# Altium schematic symbol library pinhead.SCHLIB: 98 symbols
Pins are listed as number, name and electrical type; pins without a type are passive.

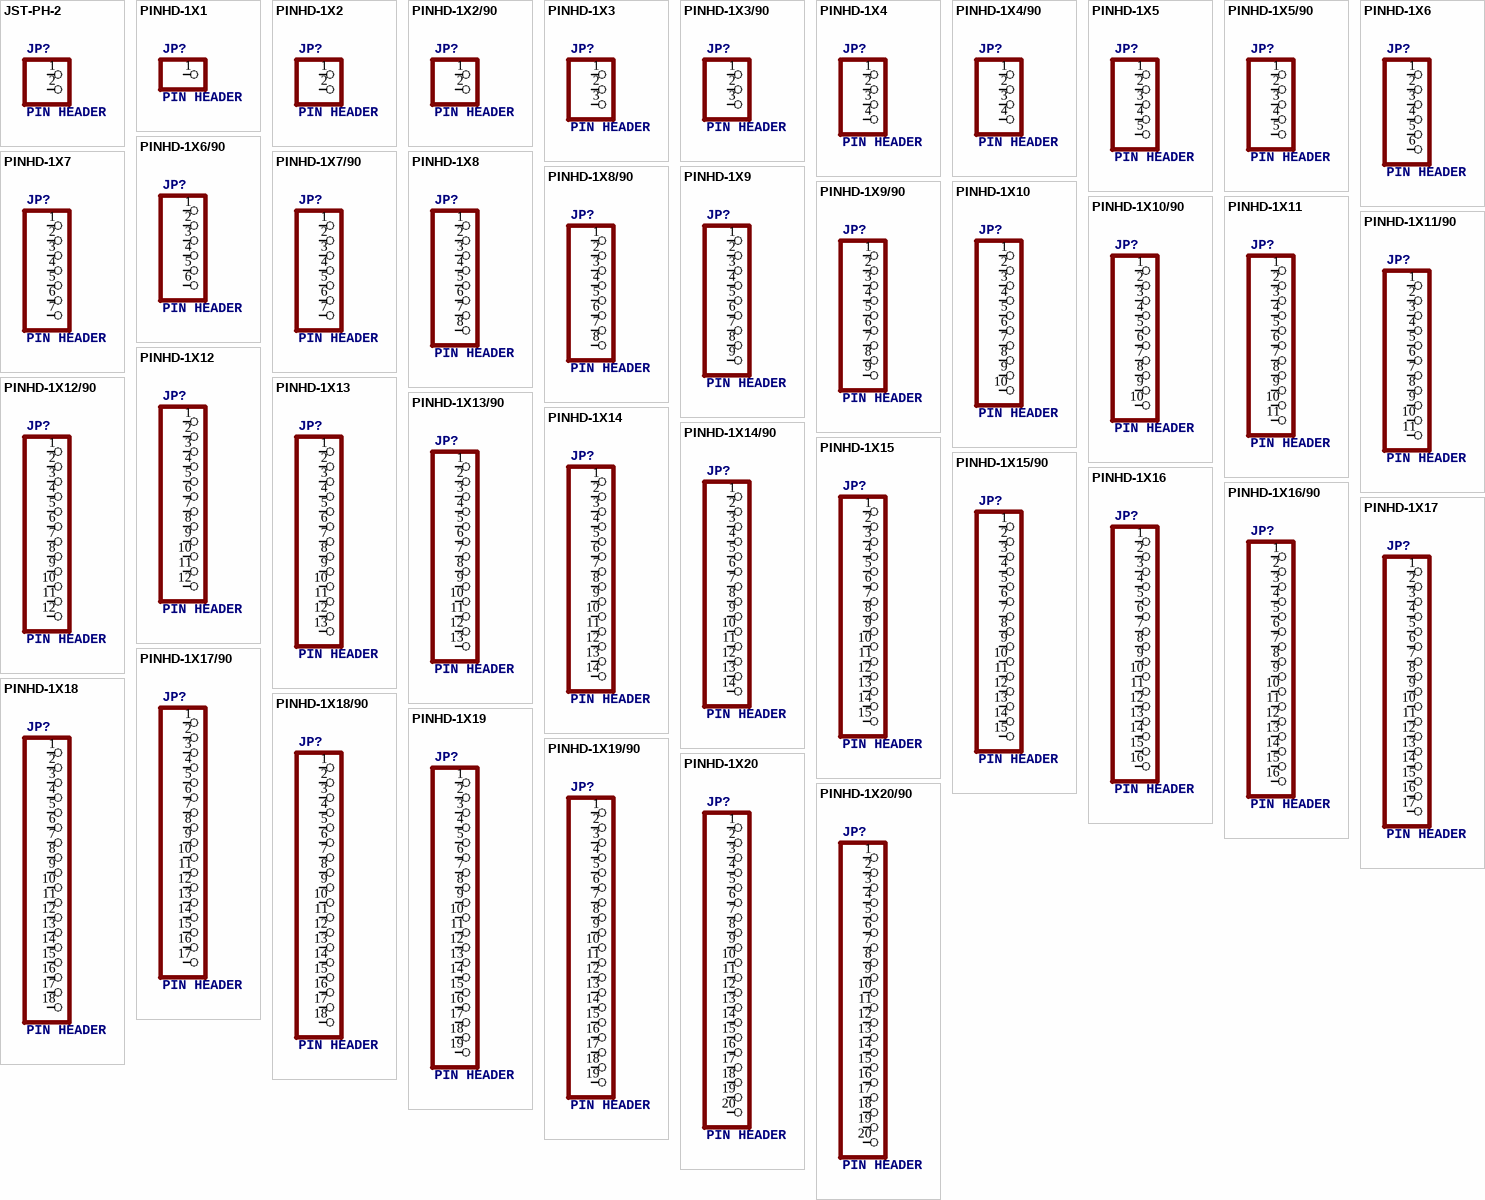
[diagram p0: symbols JST-PH-2 to PINHD-1X20/90]

## JST-PH-2
designator JP?, comment PIN HEADER
2 Positions Header Connector 0.079" (2.00mm) Through Hole, Right Angle Tin
footprint JST-PH-2
footprint JST-PH-2-SMD
pins: 1, 2

## PINHD-1X1
designator JP?, comment PIN HEADER
footprint 1X01
pins: 1

## PINHD-1X2
designator JP?, comment PIN HEADER
footprint 1X02
pins: 1, 2

## PINHD-1X2/90
designator JP?, comment PIN HEADER
footprint 1X02/90
pins: 1, 2

## PINHD-1X3
designator JP?, comment PIN HEADER
footprint 1X03
pins: 1, 2, 3

## PINHD-1X3/90
designator JP?, comment PIN HEADER
footprint 1X03/90
pins: 1, 2, 3

## PINHD-1X4
designator JP?, comment PIN HEADER
footprint 1X04
pins: 1, 2, 3, 4

## PINHD-1X4/90
designator JP?, comment PIN HEADER
footprint 1X04/90
pins: 1, 2, 3, 4

## PINHD-1X5
designator JP?, comment PIN HEADER
footprint 1X05
pins: 1, 2, 3, 4, 5

## PINHD-1X5/90
designator JP?, comment PIN HEADER
footprint 1X05/90
pins: 1, 2, 3, 4, 5

## PINHD-1X6
designator JP?, comment PIN HEADER
footprint 1X06
pins: 1, 2, 3, 4, 5, 6

## PINHD-1X6/90
designator JP?, comment PIN HEADER
footprint 1X06/90
pins: 1, 2, 3, 4, 5, 6

## PINHD-1X7
designator JP?, comment PIN HEADER
footprint 1X07
pins: 1, 2, 3, 4, 5, 6, 7

## PINHD-1X7/90
designator JP?, comment PIN HEADER
footprint 1X07/90
pins: 1, 2, 3, 4, 5, 6, 7

## PINHD-1X8
designator JP?, comment PIN HEADER
footprint 1X08
pins: 1, 2, 3, 4, 5, 6, 7, 8

## PINHD-1X8/90
designator JP?, comment PIN HEADER
footprint 1X08/90
pins: 1, 2, 3, 4, 5, 6, 7, 8

## PINHD-1X9
designator JP?, comment PIN HEADER
footprint 1X09
pins: 1, 2, 3, 4, 5, 6, 7, 8, 9

## PINHD-1X9/90
designator JP?, comment PIN HEADER
footprint 1X09/90
pins: 1, 2, 3, 4, 5, 6, 7, 8, 9

## PINHD-1X10
designator JP?, comment PIN HEADER
footprint 1X10
pins: 1, 2, 3, 4, 5, 6, 7, 8, 9, 10

## PINHD-1X10/90
designator JP?, comment PIN HEADER
footprint 1X10/90
pins: 1, 2, 3, 4, 5, 6, 7, 8, 9, 10

## PINHD-1X11
designator JP?, comment PIN HEADER
footprint 1X11
pins: 1, 2, 3, 4, 5, 6, 7, 8, 9, 10, 11

## PINHD-1X11/90
designator JP?, comment PIN HEADER
footprint 1X11/90
pins: 1, 2, 3, 4, 5, 6, 7, 8, 9, 10, 11

## PINHD-1X12
designator JP?, comment PIN HEADER
footprint 1X12
pins: 1, 2, 3, 4, 5, 6, 7, 8, 9, 10, 11, 12

## PINHD-1X12/90
designator JP?, comment PIN HEADER
footprint 1X12/90
pins: 1, 2, 3, 4, 5, 6, 7, 8, 9, 10, 11, 12

## PINHD-1X13
designator JP?, comment PIN HEADER
footprint 1X13
pins: 1, 2, 3, 4, 5, 6, 7, 8, 9, 10, 11, 12, 13

## PINHD-1X13/90
designator JP?, comment PIN HEADER
footprint 1X13/90
pins: 1, 2, 3, 4, 5, 6, 7, 8, 9, 10, 11, 12, 13

## PINHD-1X14
designator JP?, comment PIN HEADER
footprint 1X14
pins: 1, 2, 3, 4, 5, 6, 7, 8, 9, 10, 11, 12, 13, 14

## PINHD-1X14/90
designator JP?, comment PIN HEADER
footprint 1X14/90
pins: 1, 2, 3, 4, 5, 6, 7, 8, 9, 10, 11, 12, 13, 14

## PINHD-1X15
designator JP?, comment PIN HEADER
footprint 1X15
pins: 1, 2, 3, 4, 5, 6, 7, 8, 9, 10, 11, 12, 13, 14, 15

## PINHD-1X15/90
designator JP?, comment PIN HEADER
footprint 1X15/90
pins: 1, 2, 3, 4, 5, 6, 7, 8, 9, 10, 11, 12, 13, 14, 15

## PINHD-1X16
designator JP?, comment PIN HEADER
footprint 1X16
pins: 1, 2, 3, 4, 5, 6, 7, 8, 9, 10, 11, 12, 13, 14, 15, 16

## PINHD-1X16/90
designator JP?, comment PIN HEADER
footprint 1X16/90
pins: 1, 2, 3, 4, 5, 6, 7, 8, 9, 10, 11, 12, 13, 14, 15, 16

## PINHD-1X17
designator JP?, comment PIN HEADER
footprint 1X17
pins: 1, 2, 3, 4, 5, 6, 7, 8, 9, 10, 11, 12, 13, 14, 15, 16, 17

## PINHD-1X17/90
designator JP?, comment PIN HEADER
footprint 1X17/90
pins: 1, 2, 3, 4, 5, 6, 7, 8, 9, 10, 11, 12, 13, 14, 15, 16, 17

## PINHD-1X18
designator JP?, comment PIN HEADER
footprint 1X18
pins: 1, 2, 3, 4, 5, 6, 7, 8, 9, 10, 11, 12, 13, 14, 15, 16, 17, 18

## PINHD-1X18/90
designator JP?, comment PIN HEADER
footprint 1X18/90
pins: 1, 2, 3, 4, 5, 6, 7, 8, 9, 10, 11, 12, 13, 14, 15, 16, 17, 18

## PINHD-1X19
designator JP?, comment PIN HEADER
footprint 1X19
pins: 1, 2, 3, 4, 5, 6, 7, 8, 9, 10, 11, 12, 13, 14, 15, 16, 17, 18, 19

## PINHD-1X19/90
designator JP?, comment PIN HEADER
footprint 1X19/90
pins: 1, 2, 3, 4, 5, 6, 7, 8, 9, 10, 11, 12, 13, 14, 15, 16, 17, 18, 19

## PINHD-1X20
designator JP?, comment PIN HEADER
footprint 1X20
pins: 1, 2, 3, 4, 5, 6, 7, 8, 9, 10, 11, 12, 13, 14, 15, 16, 17, 18, 19, 20

## PINHD-1X20/90
designator JP?, comment PIN HEADER
footprint 1X20/90
pins: 1, 2, 3, 4, 5, 6, 7, 8, 9, 10, 11, 12, 13, 14, 15, 16, 17, 18, 19, 20

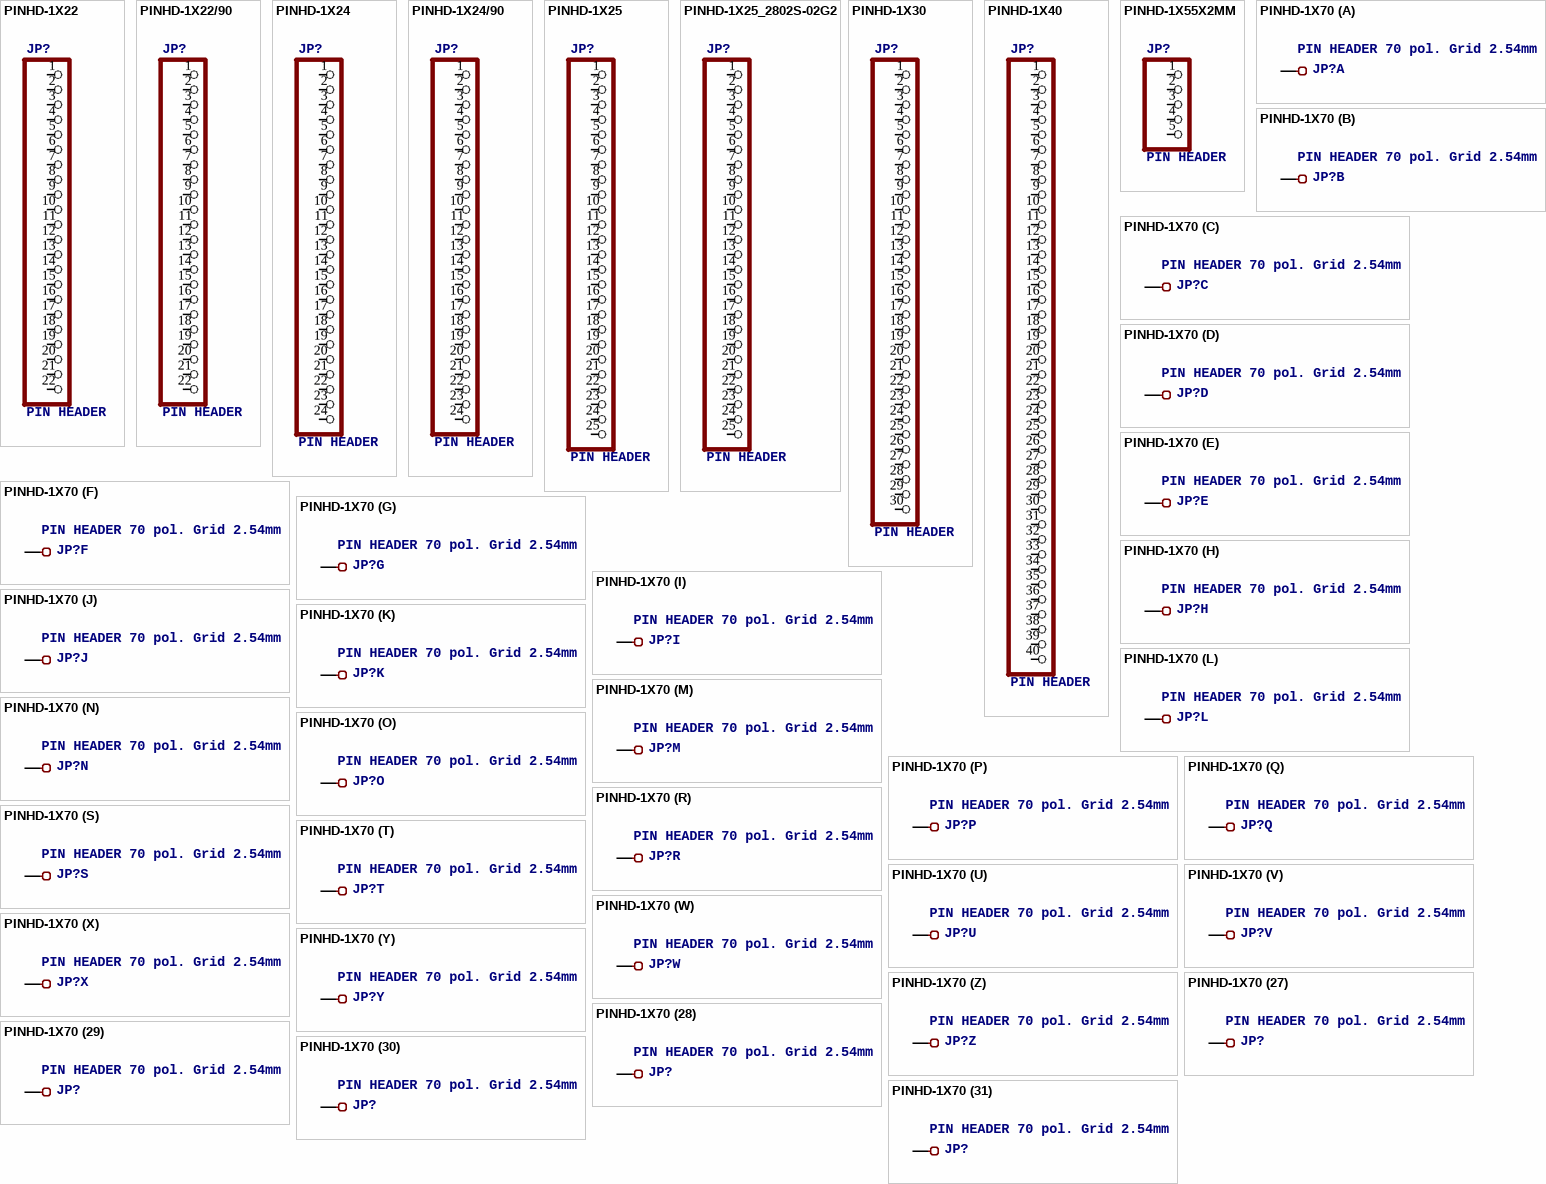
[diagram p1: symbols PINHD-1X22 to PINHD-1X70]

## PINHD-1X22
designator JP?, comment PIN HEADER
footprint 1X22
pins: 1, 2, 3, 4, 5, 6, 7, 8, 9, 10, 11, 12, 13, 14, 15, 16, 17, 18, 19, 20, 21, 22

## PINHD-1X22/90
designator JP?, comment PIN HEADER
footprint 1X22/90
pins: 1, 2, 3, 4, 5, 6, 7, 8, 9, 10, 11, 12, 13, 14, 15, 16, 17, 18, 19, 20, 21, 22

## PINHD-1X24
designator JP?, comment PIN HEADER
footprint 1X24
pins: 1, 2, 3, 4, 5, 6, 7, 8, 9, 10, 11, 12, 13, 14, 15, 16, 17, 18, 19, 20, 21, 22, 23, 24

## PINHD-1X24/90
designator JP?, comment PIN HEADER
footprint 1X24/90
pins: 1, 2, 3, 4, 5, 6, 7, 8, 9, 10, 11, 12, 13, 14, 15, 16, 17, 18, 19, 20, 21, 22, 23, 24

## PINHD-1X25
designator JP?, comment PIN HEADER
footprint 1X25
pins: 1, 2, 3, 4, 5, 6, 7, 8, 9, 10, 11, 12, 13, 14, 15, 16, 17, 18, 19, 20, 21, 22, 23, 24, 25

## PINHD-1X25_2802S-02G2
designator JP?, comment PIN HEADER
footprint 2802S-02G2
pins: 1, 2, 3, 4, 5, 6, 7, 8, 9, 10, 11, 12, 13, 14, 15, 16, 17, 18, 19, 20, 21, 22, 23, 24, 25

## PINHD-1X30
designator JP?, comment PIN HEADER
footprint 1X30
pins: 1, 2, 3, 4, 5, 6, 7, 8, 9, 10, 11, 12, 13, 14, 15, 16, 17, 18, 19, 20, 21, 22, 23, 24, 25, 26, 27, 28, 29, 30

## PINHD-1X40
designator JP?, comment PIN HEADER
footprint 1X40
pins: 1, 2, 3, 4, 5, 6, 7, 8, 9, 10, 11, 12, 13, 14, 15, 16, 17, 18, 19, 20, 21, 22, 23, 24, 25, 26, 27, 28, 29, 30, 31, 32, 33, 34, 35, 36, 37, 38, 39, 40

## PINHD-1X55X2MM
designator JP?, comment PIN HEADER
footprint 1_05X2MM
pins: 1, 2, 3, 4, 5

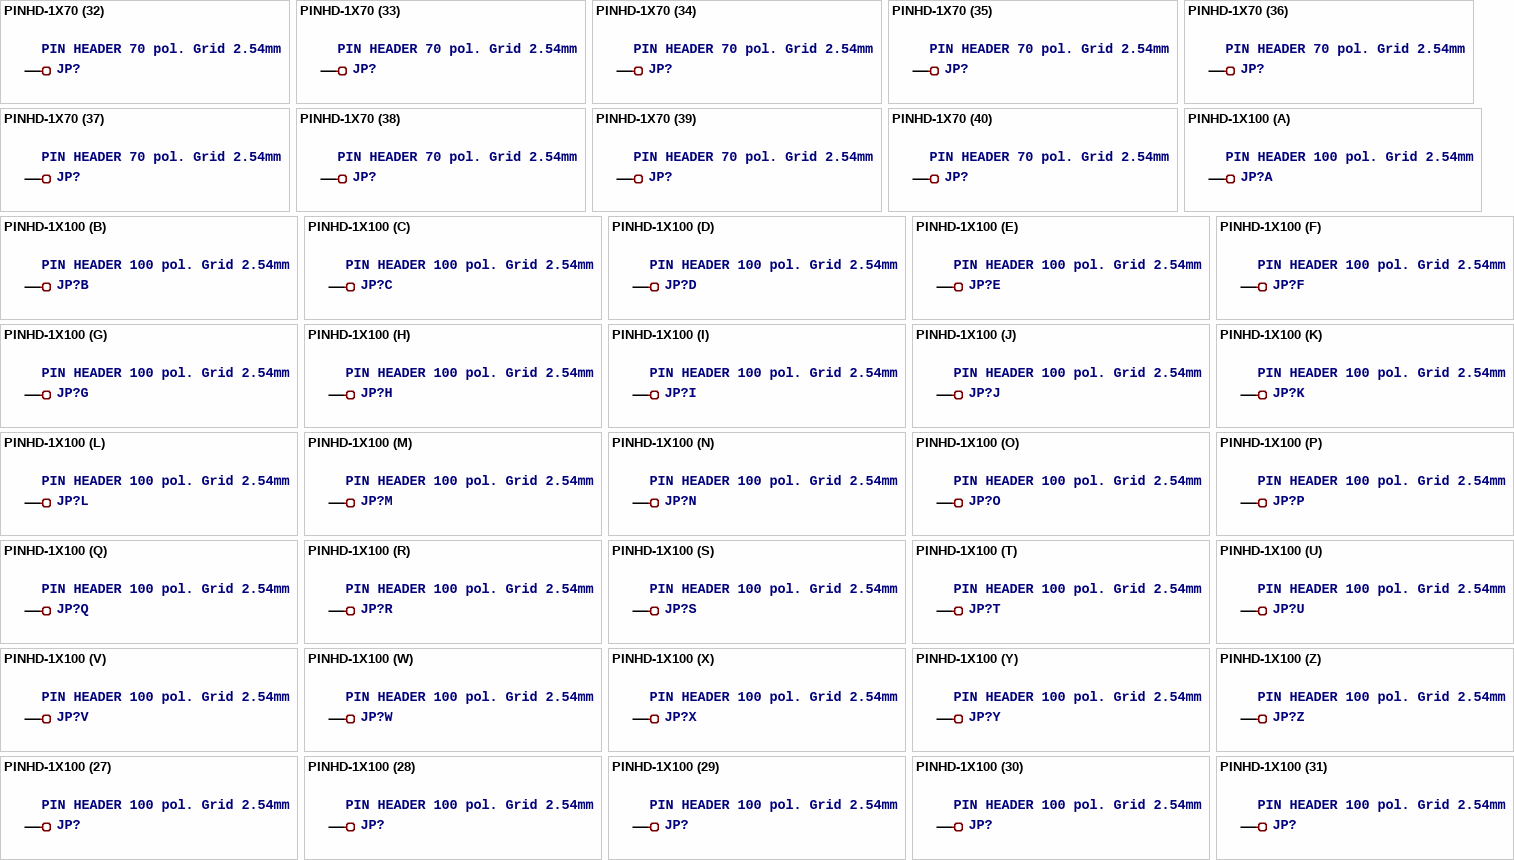
[diagram p2: symbols PINHD-1X70 to PINHD-1X100]

## PINHD-1X70
designator JP?, comment PIN HEADER 70 pol. Grid 2.54mm
footprint 1X70
part A pins: 1
part B pins: 2 1
part C pins: 3 1
part D pins: 4 1
part E pins: 5 1
part F pins: 6 1
part G pins: 7 1
part H pins: 8 1
part I pins: 9 1
part J pins: 10 1
part K pins: 11 1
part L pins: 12 1
part M pins: 13 1
part N pins: 14 1
part O pins: 15 1
part P pins: 16 1
part Q pins: 17 1
part R pins: 18 1
part S pins: 19 1
part T pins: 20 1
part U pins: 21 1
part V pins: 22 1
part W pins: 23 1
part X pins: 24 1
part Y pins: 25 1
part Z pins: 26 1
part 27 pins: 27 1
part 28 pins: 28 1
part 29 pins: 29 1
part 30 pins: 30 1
part 31 pins: 31 1
part 32 pins: 32 1
part 33 pins: 33 1
part 34 pins: 34 1
part 35 pins: 35 1
part 36 pins: 36 1
part 37 pins: 37 1
part 38 pins: 38 1
part 39 pins: 39 1
part 40 pins: 40 1
part 41 pins: 41 1
part 42 pins: 42 1
part 43 pins: 43 1
part 44 pins: 44 1
part 45 pins: 45 1
part 46 pins: 46 1
part 47 pins: 47 1
part 48 pins: 48 1
part 49 pins: 49 1
part 50 pins: 50 1
part 51 pins: 51 1
part 52 pins: 52 1
part 53 pins: 53 1
part 54 pins: 54 1
part 55 pins: 55 1
part 56 pins: 56 1
part 57 pins: 57 1
part 58 pins: 58 1
part 59 pins: 59 1
part 60 pins: 60 1
part 61 pins: 61 1
part 62 pins: 62 1
part 63 pins: 63 1
part 64 pins: 64 1
part 65 pins: 65 1
part 66 pins: 66 1
part 67 pins: 67 1
part 68 pins: 68 1
part 69 pins: 69 1
part 70 pins: 70 1

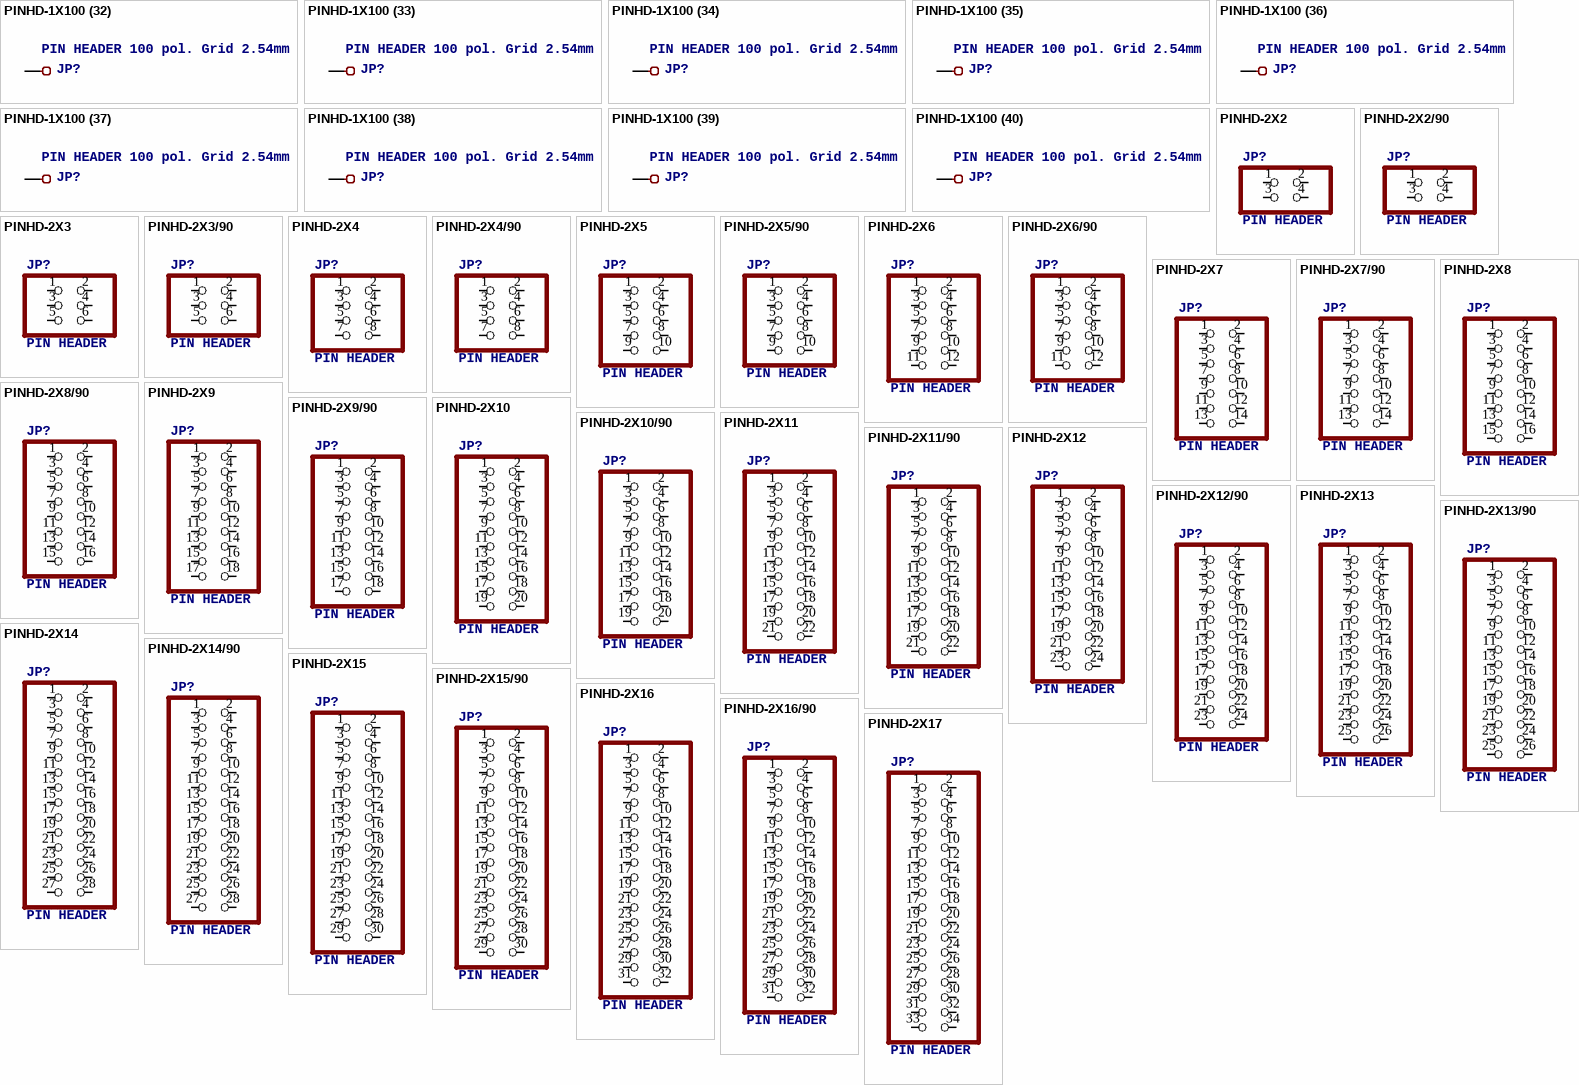
[diagram p3: symbols PINHD-1X100 to PINHD-2X17]

## PINHD-1X100
designator JP?, comment PIN HEADER 100 pol. Grid 2.54mm
footprint 1X100
part A pins: 1
part B pins: 2 1
part C pins: 3 1
part D pins: 4 1
part E pins: 5 1
part F pins: 6 1
part G pins: 7 1
part H pins: 8 1
part I pins: 9 1
part J pins: 10 1
part K pins: 11 1
part L pins: 12 1
part M pins: 13 1
part N pins: 14 1
part O pins: 15 1
part P pins: 16 1
part Q pins: 17 1
part R pins: 18 1
part S pins: 19 1
part T pins: 20 1
part U pins: 21 1
part V pins: 22 1
part W pins: 23 1
part X pins: 24 1
part Y pins: 25 1
part Z pins: 26 1
part 27 pins: 27 1
part 28 pins: 28 1
part 29 pins: 29 1
part 30 pins: 30 1
part 31 pins: 31 1
part 32 pins: 32 1
part 33 pins: 33 1
part 34 pins: 34 1
part 35 pins: 35 1
part 36 pins: 36 1
part 37 pins: 37 1
part 38 pins: 38 1
part 39 pins: 39 1
part 40 pins: 40 1
part 41 pins: 41 1
part 42 pins: 42 1
part 43 pins: 43 1
part 44 pins: 44 1
part 45 pins: 45 1
part 46 pins: 46 1
part 47 pins: 47 1
part 48 pins: 48 1
part 49 pins: 49 1
part 50 pins: 50 1
part 51 pins: 51 1
part 52 pins: 52 1
part 53 pins: 53 1
part 54 pins: 54 1
part 55 pins: 55 1
part 56 pins: 56 1
part 57 pins: 57 1
part 58 pins: 58 1
part 59 pins: 59 1
part 60 pins: 60 1
part 61 pins: 61 1
part 62 pins: 62 1
part 63 pins: 63 1
part 64 pins: 64 1
part 65 pins: 65 1
part 66 pins: 66 1
part 67 pins: 67 1
part 68 pins: 68 1
part 69 pins: 69 1
part 70 pins: 70 1
part 71 pins: 71 1
part 72 pins: 72 1
part 73 pins: 73 1
part 74 pins: 74 1
part 75 pins: 75 1
part 76 pins: 76 1
part 77 pins: 77 1
part 78 pins: 78 1
part 79 pins: 79 1
part 80 pins: 80 1
part 81 pins: 81 1
part 82 pins: 82 1
part 83 pins: 83 1
part 84 pins: 84 1
part 85 pins: 85 1
part 86 pins: 86 1
part 87 pins: 87 1
part 88 pins: 88 1
part 89 pins: 89 1
part 90 pins: 90 1
part 91 pins: 91 1
part 92 pins: 92 1
part 93 pins: 93 1
part 94 pins: 94 1
part 95 pins: 95 1
part 96 pins: 96 1
part 97 pins: 97 1
part 98 pins: 98 1
part 99 pins: 99 1
part 100 pins: 100 1

## PINHD-2X2
designator JP?, comment PIN HEADER
footprint 2X02
pins: 1, 2, 3, 4

## PINHD-2X2/90
designator JP?, comment PIN HEADER
footprint 2X02/90
pins: 1, 2, 3, 4

## PINHD-2X3
designator JP?, comment PIN HEADER
footprint 2X03
pins: 1, 2, 3, 4, 5, 6

## PINHD-2X3/90
designator JP?, comment PIN HEADER
footprint 2X03/90
pins: 1, 2, 3, 4, 5, 6

## PINHD-2X4
designator JP?, comment PIN HEADER
footprint 2X04
pins: 1, 2, 3, 4, 5, 6, 7, 8

## PINHD-2X4/90
designator JP?, comment PIN HEADER
footprint 2X04/90
pins: 1, 2, 3, 4, 5, 6, 7, 8

## PINHD-2X5
designator JP?, comment PIN HEADER
footprint 2X05
pins: 1, 2, 3, 4, 5, 6, 7, 8, 9, 10

## PINHD-2X5/90
designator JP?, comment PIN HEADER
footprint 2X05/90
pins: 1, 2, 3, 4, 5, 6, 7, 8, 9, 10

## PINHD-2X6
designator JP?, comment PIN HEADER
footprint 2X06
pins: 1, 2, 3, 4, 5, 6, 7, 8, 9, 10, 11, 12

## PINHD-2X6/90
designator JP?, comment PIN HEADER
footprint 2X06/90
pins: 1, 2, 3, 4, 5, 6, 7, 8, 9, 10, 11, 12

## PINHD-2X7
designator JP?, comment PIN HEADER
footprint 2X07
pins: 1, 2, 3, 4, 5, 6, 7, 8, 9, 10, 11, 12, 13, 14

## PINHD-2X7/90
designator JP?, comment PIN HEADER
footprint 2X07/90
pins: 1, 2, 3, 4, 5, 6, 7, 8, 9, 10, 11, 12, 13, 14

## PINHD-2X8
designator JP?, comment PIN HEADER
footprint 2X08
pins: 1, 2, 3, 4, 5, 6, 7, 8, 9, 10, 11, 12, 13, 14, 15, 16

## PINHD-2X8/90
designator JP?, comment PIN HEADER
footprint 2X08/90
pins: 1, 2, 3, 4, 5, 6, 7, 8, 9, 10, 11, 12, 13, 14, 15, 16

## PINHD-2X9
designator JP?, comment PIN HEADER
footprint 2X09
pins: 1, 2, 3, 4, 5, 6, 7, 8, 9, 10, 11, 12, 13, 14, 15, 16, 17, 18

## PINHD-2X9/90
designator JP?, comment PIN HEADER
footprint 2X09/90
pins: 1, 2, 3, 4, 5, 6, 7, 8, 9, 10, 11, 12, 13, 14, 15, 16, 17, 18

## PINHD-2X10
designator JP?, comment PIN HEADER
footprint 2X10
pins: 1, 2, 3, 4, 5, 6, 7, 8, 9, 10, 11, 12, 13, 14, 15, 16, 17, 18, 19, 20

## PINHD-2X10/90
designator JP?, comment PIN HEADER
footprint 2X10/90
pins: 1, 2, 3, 4, 5, 6, 7, 8, 9, 10, 11, 12, 13, 14, 15, 16, 17, 18, 19, 20

## PINHD-2X11
designator JP?, comment PIN HEADER
footprint 2X11
pins: 1, 2, 3, 4, 5, 6, 7, 8, 9, 10, 11, 12, 13, 14, 15, 16, 17, 18, 19, 20, 21, 22

## PINHD-2X11/90
designator JP?, comment PIN HEADER
footprint 2X11/90
pins: 1, 2, 3, 4, 5, 6, 7, 8, 9, 10, 11, 12, 13, 14, 15, 16, 17, 18, 19, 20, 21, 22

## PINHD-2X12
designator JP?, comment PIN HEADER
footprint 2X12
pins: 1, 2, 3, 4, 5, 6, 7, 8, 9, 10, 11, 12, 13, 14, 15, 16, 17, 18, 19, 20, 21, 22, 23, 24

## PINHD-2X12/90
designator JP?, comment PIN HEADER
footprint 2X12/90
pins: 1, 2, 3, 4, 5, 6, 7, 8, 9, 10, 11, 12, 13, 14, 15, 16, 17, 18, 19, 20, 21, 22, 23, 24

## PINHD-2X13
designator JP?, comment PIN HEADER
footprint 2X13
pins: 1, 2, 3, 4, 5, 6, 7, 8, 9, 10, 11, 12, 13, 14, 15, 16, 17, 18, 19, 20, 21, 22, 23, 24, 25, 26

## PINHD-2X13/90
designator JP?, comment PIN HEADER
footprint 2X13/90
pins: 1, 2, 3, 4, 5, 6, 7, 8, 9, 10, 11, 12, 13, 14, 15, 16, 17, 18, 19, 20, 21, 22, 23, 24, 25, 26

## PINHD-2X14
designator JP?, comment PIN HEADER
footprint 2X14
pins: 1, 2, 3, 4, 5, 6, 7, 8, 9, 10, 11, 12, 13, 14, 15, 16, 17, 18, 19, 20, 21, 22, 23, 24, 25, 26, 27, 28

## PINHD-2X14/90
designator JP?, comment PIN HEADER
footprint 2X14/90
pins: 1, 2, 3, 4, 5, 6, 7, 8, 9, 10, 11, 12, 13, 14, 15, 16, 17, 18, 19, 20, 21, 22, 23, 24, 25, 26, 27, 28

## PINHD-2X15
designator JP?, comment PIN HEADER
footprint 2X15
pins: 1, 2, 3, 4, 5, 6, 7, 8, 9, 10, 11, 12, 13, 14, 15, 16, 17, 18, 19, 20, 21, 22, 23, 24, 25, 26, 27, 28, 29, 30

## PINHD-2X15/90
designator JP?, comment PIN HEADER
footprint 2X15/90
pins: 1, 2, 3, 4, 5, 6, 7, 8, 9, 10, 11, 12, 13, 14, 15, 16, 17, 18, 19, 20, 21, 22, 23, 24, 25, 26, 27, 28, 29, 30

## PINHD-2X16
designator JP?, comment PIN HEADER
footprint 2X16
pins: 1, 2, 3, 4, 5, 6, 7, 8, 9, 10, 11, 12, 13, 14, 15, 16, 17, 18, 19, 20, 21, 22, 23, 24, 25, 26, 27, 28, 29, 30, 31, 32

## PINHD-2X16/90
designator JP?, comment PIN HEADER
footprint 2X16/90
pins: 1, 2, 3, 4, 5, 6, 7, 8, 9, 10, 11, 12, 13, 14, 15, 16, 17, 18, 19, 20, 21, 22, 23, 24, 25, 26, 27, 28, 29, 30, 31, 32

## PINHD-2X17
designator JP?, comment PIN HEADER
footprint 2X17
pins: 1, 2, 3, 4, 5, 6, 7, 8, 9, 10, 11, 12, 13, 14, 15, 16, 17, 18, 19, 20, 21, 22, 23, 24, 25, 26, 27, 28, 29, 30, 31, 32, 33, 34

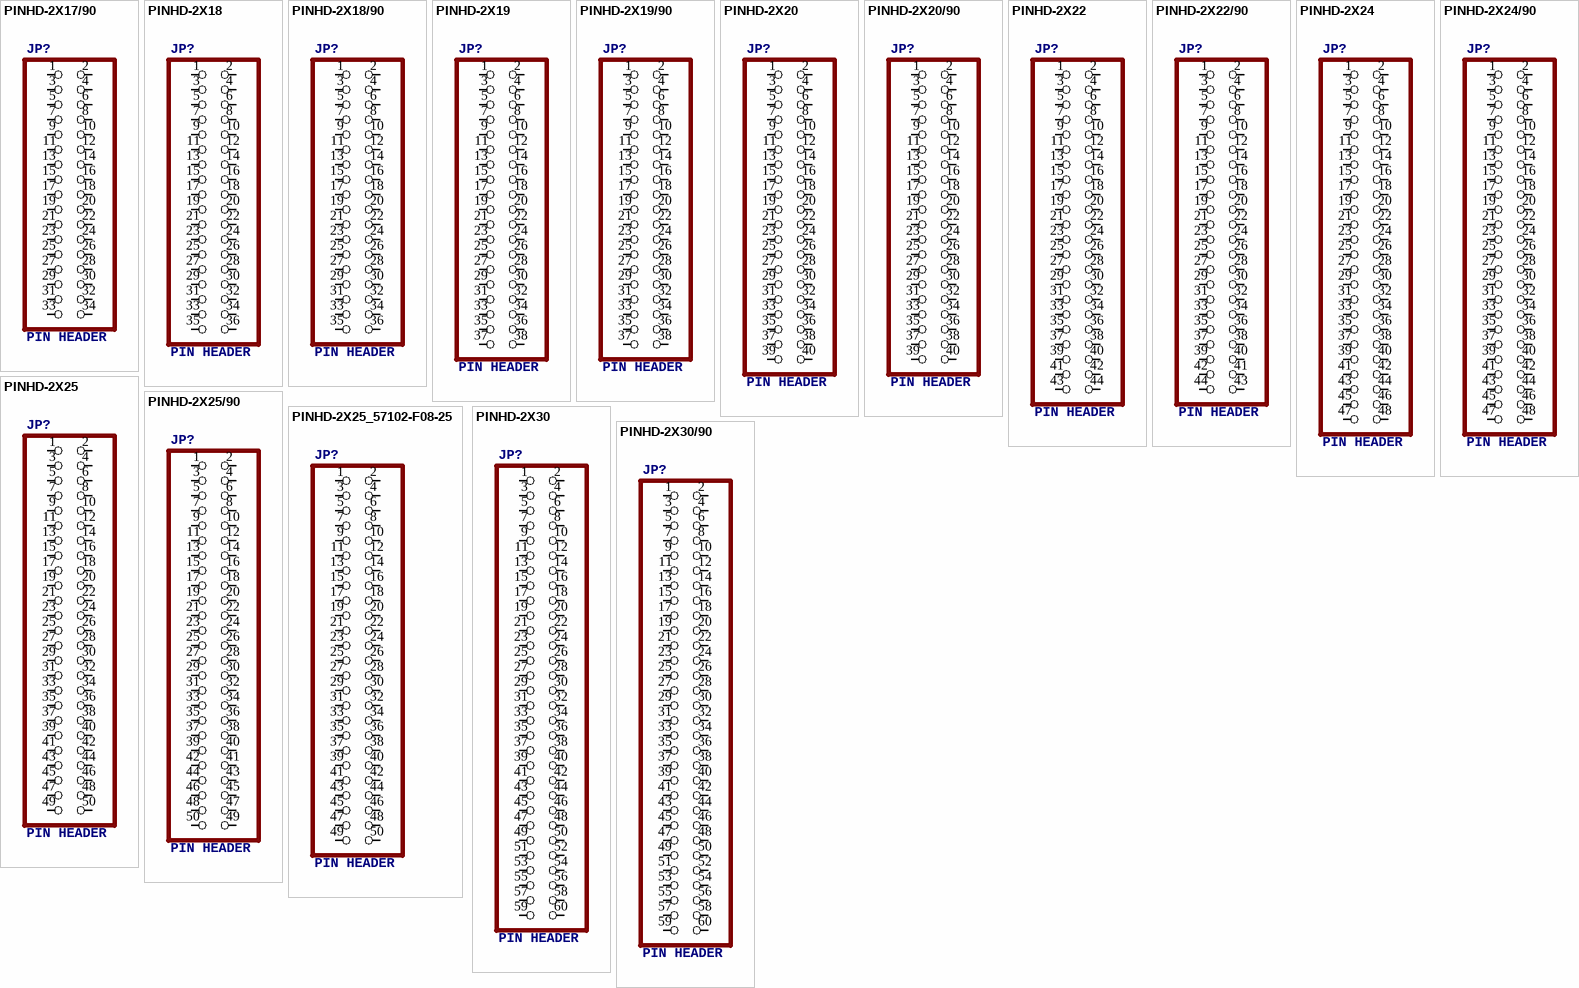
[diagram p4: symbols PINHD-2X17/90 to PINHD-2X30/90]

## PINHD-2X17/90
designator JP?, comment PIN HEADER
footprint 2X17/90
pins: 1, 2, 3, 4, 5, 6, 7, 8, 9, 10, 11, 12, 13, 14, 15, 16, 17, 18, 19, 20, 21, 22, 23, 24, 25, 26, 27, 28, 29, 30, 31, 32, 33, 34

## PINHD-2X18
designator JP?, comment PIN HEADER
footprint 2X18
pins: 1, 2, 3, 4, 5, 6, 7, 8, 9, 10, 11, 12, 13, 14, 15, 16, 17, 18, 19, 20, 21, 22, 23, 24, 25, 26, 27, 28, 29, 30, 31, 32, 33, 34, 35, 36

## PINHD-2X18/90
designator JP?, comment PIN HEADER
footprint 2X18/90
pins: 1, 2, 3, 4, 5, 6, 7, 8, 9, 10, 11, 12, 13, 14, 15, 16, 17, 18, 19, 20, 21, 22, 23, 24, 25, 26, 27, 28, 29, 30, 31, 32, 33, 34, 35, 36

## PINHD-2X19
designator JP?, comment PIN HEADER
footprint 2X19
pins: 1, 2, 3, 4, 5, 6, 7, 8, 9, 10, 11, 12, 13, 14, 15, 16, 17, 18, 19, 20, 21, 22, 23, 24, 25, 26, 27, 28, 29, 30, 31, 32, 33, 34, 35, 36, 37, 38

## PINHD-2X19/90
designator JP?, comment PIN HEADER
footprint 2X19/90
pins: 1, 2, 3, 4, 5, 6, 7, 8, 9, 10, 11, 12, 13, 14, 15, 16, 17, 18, 19, 20, 21, 22, 23, 24, 25, 26, 27, 28, 29, 30, 31, 32, 33, 34, 35, 36, 37, 38

## PINHD-2X20
designator JP?, comment PIN HEADER
footprint 2X20
pins: 1, 2, 3, 4, 5, 6, 7, 8, 9, 10, 11, 12, 13, 14, 15, 16, 17, 18, 19, 20, 21, 22, 23, 24, 25, 26, 27, 28, 29, 30, 31, 32, 33, 34, 35, 36, 37, 38, 39, 40

## PINHD-2X20/90
designator JP?, comment PIN HEADER
footprint 2X20/90
pins: 1, 2, 3, 4, 5, 6, 7, 8, 9, 10, 11, 12, 13, 14, 15, 16, 17, 18, 19, 20, 21, 22, 23, 24, 25, 26, 27, 28, 29, 30, 31, 32, 33, 34, 35, 36, 37, 38, 39, 40

## PINHD-2X22
designator JP?, comment PIN HEADER
footprint 2X22
pins: 1, 2, 3, 4, 5, 6, 7, 8, 9, 10, 11, 12, 13, 14, 15, 16, 17, 18, 19, 20, 21, 22, 23, 24, 25, 26, 27, 28, 29, 30, 31, 32, 33, 34, 35, 36, 37, 38, 39, 40, 41, 42, 43, 44

## PINHD-2X22/90
designator JP?, comment PIN HEADER
footprint 2X22/90
pins: 1, 2, 3, 4, 5, 6, 7, 8, 9, 10, 11, 12, 13, 14, 15, 16, 17, 18, 19, 20, 21, 22, 23, 24, 25, 26, 27, 28, 29, 30, 31, 32, 33, 34, 35, 36, 37, 38, 39, 40, 41 42, 42 41, 43 44, 44 43

## PINHD-2X24
designator JP?, comment PIN HEADER
footprint 2X24
pins: 1, 2, 3, 4, 5, 6, 7, 8, 9, 10, 11, 12, 13, 14, 15, 16, 17, 18, 19, 20, 21, 22, 23, 24, 25, 26, 27, 28, 29, 30, 31, 32, 33, 34, 35, 36, 37, 38, 39, 40, 41, 42, 43, 44, 45, 46, 47, 48

## PINHD-2X24/90
designator JP?, comment PIN HEADER
footprint 2X24/90
pins: 1, 2, 3, 4, 5, 6, 7, 8, 9, 10, 11, 12, 13, 14, 15, 16, 17, 18, 19, 20, 21, 22, 23, 24, 25, 26, 27, 28, 29, 30, 31, 32, 33, 34, 35, 36, 37, 38, 39, 40, 41, 42, 43, 44, 45, 46, 47, 48

## PINHD-2X25
designator JP?, comment PIN HEADER
footprint 2X25
pins: 1, 2, 3, 4, 5, 6, 7, 8, 9, 10, 11, 12, 13, 14, 15, 16, 17, 18, 19, 20, 21, 22, 23, 24, 25, 26, 27, 28, 29, 30, 31, 32, 33, 34, 35, 36, 37, 38, 39, 40, 41, 42, 43, 44, 45, 46, 47, 48, 49, 50

## PINHD-2X25/90
designator JP?, comment PIN HEADER
footprint 2X25/90
pins: 1, 2, 3, 4, 5, 6, 7, 8, 9, 10, 11, 12, 13, 14, 15, 16, 17, 18, 19, 20, 21, 22, 23, 24, 25, 26, 27, 28, 29, 30, 31, 32, 33, 34, 35, 36, 37, 38, 39, 40, 41 42, 42 41, 43 44, 44 43, 45 46, 46 45, 47 48, 48 47, 49 50, 50 49

## PINHD-2X25_57102-F08-25
designator JP?, comment PIN HEADER
footprint 57102-F08-25
pins: 1, 2, 3, 4, 5, 6, 7, 8, 9, 10, 11, 12, 13, 14, 15, 16, 17, 18, 19, 20, 21, 22, 23, 24, 25, 26, 27, 28, 29, 30, 31, 32, 33, 34, 35, 36, 37, 38, 39, 40, 41, 42, 43, 44, 45, 46, 47, 48, 49, 50

## PINHD-2X30
designator JP?, comment PIN HEADER
footprint 2X30
pins: 1, 2, 3, 4, 5, 6, 7, 8, 9, 10, 11, 12, 13, 14, 15, 16, 17, 18, 19, 20, 21, 22, 23, 24, 25, 26, 27, 28, 29, 30, 31, 32, 33, 34, 35, 36, 37, 38, 39, 40, 41, 42, 43, 44, 45, 46, 47, 48, 49, 50, 51, 52, 53, 54, 55, 56, 57, 58, 59, 60

## PINHD-2X30/90
designator JP?, comment PIN HEADER
footprint 2X30/90
pins: 1, 2, 3, 4, 5, 6, 7, 8, 9, 10, 11, 12, 13, 14, 15, 16, 17, 18, 19, 20, 21, 22, 23, 24, 25, 26, 27, 28, 29, 30, 31, 32, 33, 34, 35, 36, 37, 38, 39, 40, 41, 42, 43, 44, 45, 46, 47, 48, 49, 50, 51, 52, 53, 54, 55, 56, 57, 58, 59, 60